# Altium schematic symbol library Schlib1.SCHLIB: 38 symbols
Pins are listed as number, name and electrical type; pins without a type are passive.

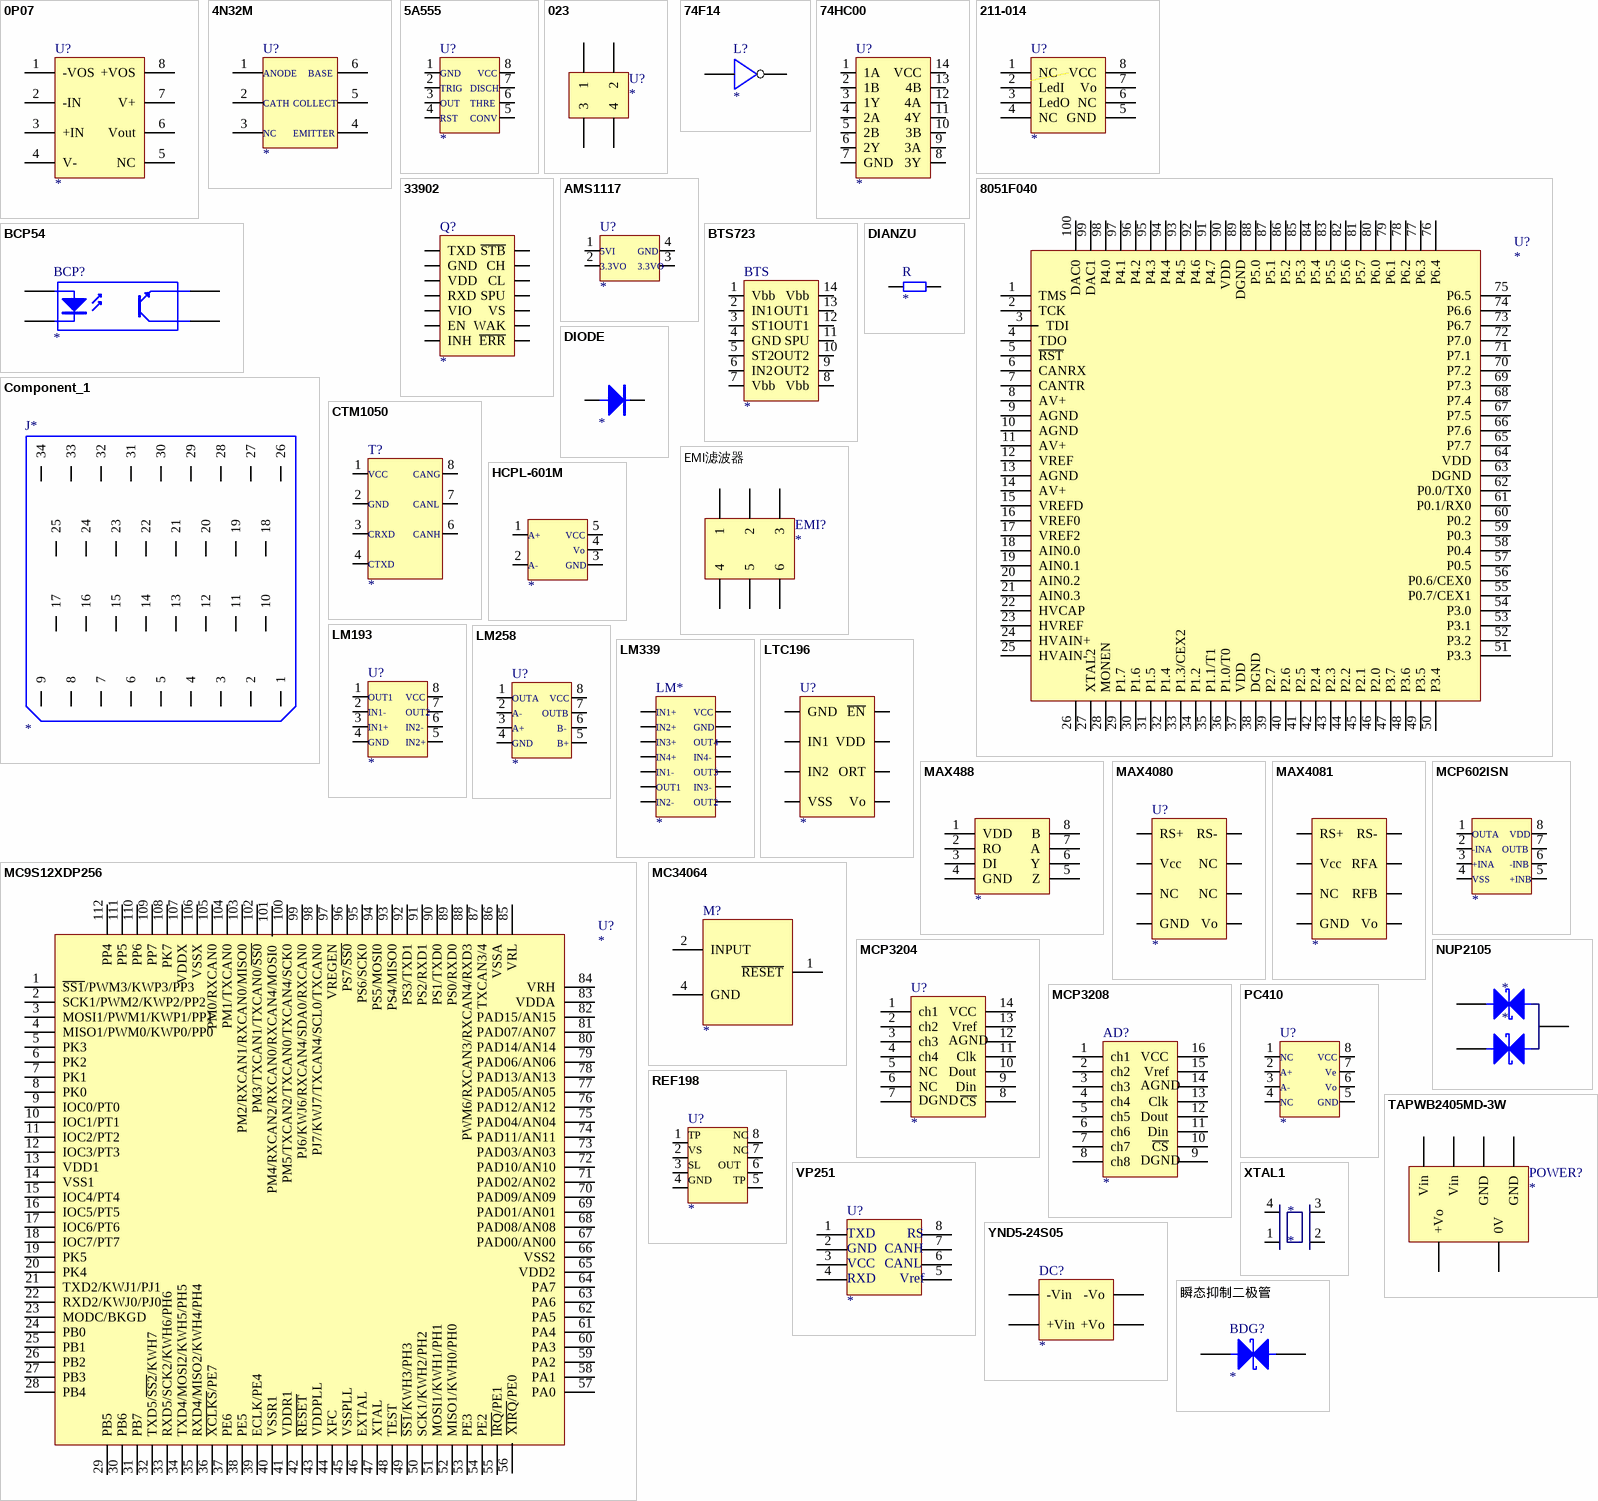
[diagram p0: symbols 0P07 to 瞬态抑制二极管]

## 0P07
designator U?
pins: 1 -VOS, 2 -IN, 3 +IN, 4 V-, 5 NC, 6 Vout, 7 V+, 8 +VOS

## 4N32M
designator U?
pins: 1 ANODE, 2 CATHODE, 3 NC, 4 EMITTER, 5 COLLECT, 6 BASE
text: CATH

## 5A555
designator U?
pins: 1 GND, 2 TRIGGER, 3 OUTPUT, 4 RESET, 5 CONTROL VOL , 6 THRESHOLD, 7 DISCHARGE, 8 VCC
text: TRIG; DISCH; OUT; THRE; RST; CONV

## 023
designator U?
pins: 1, 2, 3, 4

## 74F14
designator L?
pins: 1, 2

## 74HC00
designator U?
pins: 1 1A, 2 1B, 3 1Y, 4 2A, 5 2B, 6 2Y, 7 GND, 8 3Y, 9 3A, 10 3B, 11 4Y, 12 4A, 13 4B, 14 VCC

## 211-014
designator U?
pins: 1 NC, 2 LedI, 3 LedO, 4 NC, 5 GND, 6 NC, 7 Vo, 8 VCC

## 8051F040
designator U?
pins: 1 TMS, 2 TCK, 3 TDI, 4 TDO, 5 ~{RST}, 6 CANRX, 7 CANTR, 8 AV+, 9 AGND, 10 AGND, 11 AV+, 12 VREF, 13 AGND, 14 AV+, 15 VREFD, 16 VREF0, 17 VREF2, 18 AIN0.0, 19 AIN0.1, 20 AIN0.2, 21 AIN0.3, 22 HVCAP, 23 HVREF, 24 HVAIN+, 25 HVAIN-, 26 XT1, 27 XTAL2, 28 MONEN, 29 P1.7, 30 P1.6, 31 P1.5, 32 P1.4, 33 P1.3/CEX2, 34 P1.2, 35 P1.1/T1, 36 P1.0/T0, 37 VDD, 38 DGND, 39 P2.7, 40 P2.6, 41 P2.5, 42 P2.4, 43 P2.3, 44 P2.2, 45 P2.1, 46 P2.0, 47 P3.7, 48 P3.6, 49 P3.5, 50 P3.4, 51 P3.3, 52 P3.2, 53 P3.1, 54 P3.0, 55 P0.7/CEX1, 56 P0.6/CEX0, 57 P0.5, 58 P0.4, 59 P0.3, 60 P0.2, 61 P0.1/RX0, 62 P0.0/TX0, 63 DGND, 64 VDD, 65 P7.7, 66 P7.6, 67 P7.5, 68 P7.4, 69 P7.3, 70 P7.2, 71 P7.1, 72 P7.0, 73 P6.7, 74 P6.6, 75 P6.5, 76 P6.4, 77 P6.3, 78 P6.2, 79 P6.1, 80 P6.0, 81 P5.7, 82 P5.6, 83 P5.5, 84 P5.4, 85 P5.3, 86 P5.2, 87 P5.1, 88 P5.0, 89 DGND, 90 VDD, 91 P4.7, 92 P4.6, 93 P4.5, 94 P4.4, 95 P4.3, 96 P4.2, 97 P4.1, 98 P4.0, 99 DAC1, 100 DAC0

## 33902
designator Q?
pins: 1 TXD, 2 GND, 3 VDD, 4 RXD, 5 VIO, 6 EN, 7 INH, 8 ~{ERR}, 9 WAK, 10 VS, 11 SPU, 12 CL, 13 CH, 14 ~{STB}

## AMS1117
designator U?
pins: 1 5VI, 2 3.3VO, 3 3.3VO, 4 GND

## BCP54
designator BCP?
pins: 1 A, 2 K, 3 C, 4 E

## BTS723
designator BTS
pins: 1 Vbb, 2 IN1, 3 ST1, 4 GND , 5 ST2, 6 IN2, 7 Vbb, 8 Vbb, 9 OUT2, 10 OUT2, 11 SPU, 12 OUT1, 13 OUT1, 14 Vbb

## Component_1
designator J*
pins: 1 (oc), 2, 3, 4, 5, 6, 7, 8, 9, 10, 11, 12, 13, 14, 15, 16, 17, 18, 19, 20, 21, 22, 23, 24, 25, 26, 27, 28, 29, 30, 31, 32, 33, 34

## CTM1050
designator T?
pins: 1 VCC, 2 GND, 3 CRXD, 4 CTXD, 6 CANH, 7 CANL, 8 CANG

## DIANZU
designator R
pins: 1, 2

## DIODE
designator ?
pins: 1, 2

## EMI滤波器
designator EMI?
pins: 1, 2, 3, 4, 5, 6

## HCPL-601M
designator ?
pins: 1 A+, 2 A-, 3 GND, 4 Vo, 5 VCC

## LM193
designator U?
pins: 1 OUT1, 2 IN1-, 3 IN1+, 4 GND, 5 IN2+, 6 IN2+, 7 OUT2, 8 VCC
text: IN2-

## LM258
designator U?
pins: 1 OUTA, 2 A-, 3 A+, 4 A+, 5 A+, 6 A+, 7 A+, 8 A+
text: VCC; OUTB; B-; GND; B+

## LM339
designator LM*
pins: 1 OUT2, 2 OUT1, 3 VCC, 4 IN1-, 5 IN1+, 6 IN2-, 7 IN2+, 8 IN3-, 9 IN3+, 10 IN4-, 11 IN4+, 12 GND, 13 OUT4, 14 OUT3

## LTC196
designator U?
pins: 1 GND, 2 IN1, 3 IN2, 4 VSS, 5 Vo, 6 ORT, 7 VDD, 8 ~{EN}

## MAX488
designator ?
pins: 1 VDD, 2 RO, 3 DI, 4 GND, 5 Z, 6 Y, 7 A, 8 B

## MAX4080
designator U?
pins: 1 RS+, 2 Vcc, 3 NC, 4 GND, 5 Vo, 6 NC, 7 NC, 8 RS-

## MAX4081
designator ?
pins: 1 RS+, 2 Vcc, 3 NC, 4 GND, 5 Vo, 6 RFB, 7 RFA, 8 RS-

## MC9S12XDP256
designator U?
pins: 1 ~{SS1}/PWM3/KWP3/PP3, 2 SCK1/PWM2/KWP2/PP2, 3 MOSI1/PWM1/KWP1/PP1, 4 MISO1/PWM0/KWP0/PP0, 5 PK3, 6 PK2, 7 PK1, 8 PK0, 9 IOC0/PT0, 10 IOC1/PT1, 11 IOC2/PT2, 12 IOC3/PT3, 13 VDD1, 14 VSS1, 15 IOC4/PT4, 16 IOC5/PT5, 17 IOC6/PT6, 18 IOC7/PT7, 19 PK5, 20 PK4, 21 TXD2/KWJ1/PJ1, 22 RXD2/KWJ0/PJ0, 23 MODC/BKGD, 24 PB0, 25 PB1, 26 PB2, 27 PB3, 28 PB4, 29 PB5, 30 PB6, 31 PB7, 32 TXD5/~{SS2}/KWH7, 33 RXD5/SCK2/KWH6/PH6, 34 TXD4/MOSI2/KWH5/PH5, 35 RXD4/MISO2/KWH4/PH4, 36 ~{XCLKS}/PE7, 37 PE6, 38 PE5, 39 ECLK/PE4, 40 VSSR1, 41 VDDR1, 42 ~{RESET}, 43 VDDPLL, 44 XFC, 45 VSSPLL, 46 EXTAL, 47 XTAL, 48 TEST, 49 ~{SS1}/KWH3/PH3, 50 SCK1/KWH2/PH2, 51 MOSI1/KWH1/PH1, 52 MISO1/KWH0/PH0, 53 PE3, 54 PE2, 55 ~{IRQ}/PE1, 56 ~{XIRQ}/PE0, 57 PA0, 58 PA1, 59 PA2, 60 PA3, 61 PA4, 62 PA5, 63 PA6, 64 PA7, 65 VDD2, 66 VSS2, 67 PAD00/AN00, 68 PAD08/AN08, 69 PAD01/AN01, 70 PAD09/AN09, 71 PAD02/AN02, 72 PAD10/AN10, 73 PAD03/AN03, 74 PAD11/AN11, 75 PAD04/AN04, 76 PAD12/AN12, 77 PAD05/AN05, 78 PAD13/AN13, 79 PAD06/AN06, 80 PAD14/AN14, 81 PAD07/AN07, 82 PAD15/AN15, 83 VDDA, 84 VRH, 85 VRL, 86 VSSA, 87 TXCAN3/4, 88 PWM6/RXCAN3/RXCAN4/RXD3, 89 PS0/RXD0, 90 PS1/TXD0, 91 PS2/RXD1, 92 PS3/TXD1, 93 PS4/MISO0, 94 PS5/MOSI0, 95 PS6/SCK0, 96 PS7/~{SS0}, 97 VREGEN, 98 PJ7/KWJ7/TXCAN4/SCL0/TXCAN0, 99 PJ6/KWJ6/RXCAN4/SDA0/RXCAN0, 100 PM5/TXCAN2/TXCAN0/TXCAN4/SCK0, 101 PM4/RXCAN2/RXCAN0/RXCAN4/MOSI0, 102 PM3/TXCAN1/TXCAN0/~{SS0}, 103 PM2/RXCAN1/RXCAN0/MISO0, 104 PM1/TXCAN0, 105 PM0/RXCAN0, 106 VSSX, 107 VDDX, 108 PK7, 109 PP7, 110 PP6, 111 PP5, 112 PP4

## MC34064
designator M?
pins: 1 ~{RESET}, 2 INPUT, 3 NC hidden to NC, 4 GND, 5 NC hidden to NC, 6 NC hidden to NC, 7 NC hidden to NC, 8 NC hidden to NC

## MCP602ISN
designator ?
pins: 1 OUTA, 2 -INA, 3 +INA, 4 VSS, 5 +INB, 6 -INB, 7 OUTB, 8 VDD

## MCP3204
designator U?
pins: 1 ch1, 2 ch2, 3 ch3, 4 ch4, 5 NC, 6 NC, 7 DGND, 8 ~{CS}, 9 Din, 10 Dout, 11 Clk, 12 C~{S}SHDN, 13 Vref, 14 VCC
text: AGND

## MCP3208
designator AD?
pins: 1 ch1, 2 ch2, 3 ch3, 4 ch4, 5 ch5, 6 ch6, 7 ch7, 8 ch8, 9 DGND, 10 ~{CS}, 11 Din, 12 Dout, 13 Clk, 14 C~{S}SHDN, 15 Vref, 16 VCC
text: AGND

## NUP2105
designator *
footprint SOT-23 (SOT-23; 3 Leads; Body 3.1 x 2.5 mm, inc. leads (LxW max))
pins: 1 A, 2 K, 3 C

## PC410
designator U?
pins: 1 nc, 2 A+, 3 A-, 4 NC, 5 GND, 6 Vo, 7 Vg, 8 VCC
text: Ve

## REF198
designator U?
pins: 1 TP, 2 VS, 3 ~{SL}, 4 GND, 5 TP, 6 OUT, 7 NC, 8 NC
text: SL

## TAPWB2405MD-3W
designator POWER?
pins: 1 Vin, 2 Vin, 3 0V, 4 NC (io) hidden to NC, 5 +Vo, 6 NC (io) hidden to NC, 7 NC (io) hidden to NC, 8 NC (io) hidden to NC, 9 GND, 10 GND

## VP251
designator U?
pins: 1 TXD, 2 GND, 3 VCC, 4 RXD, 5, 6, 7 CANH, 8 RS
text: CANL; Vref

## XTAL1
designator *
footprint XTAL1 (Crystal Footprint)
pins: 1 0, 2 1, 3 2, 4 3

## YND5-24S05
designator DC?
pins: 1 +Vin, 2 -Vin, 3 -Vo, 4 +Vo, 5 NC hidden to NC

## 瞬态抑制二极管
designator BDG?
pins: 1 A, 2 K